# Altium schematic symbol library PC_SODIMM.SchLib: 1 symbol
Pins are listed as number, name and electrical type; pins without a type are passive.

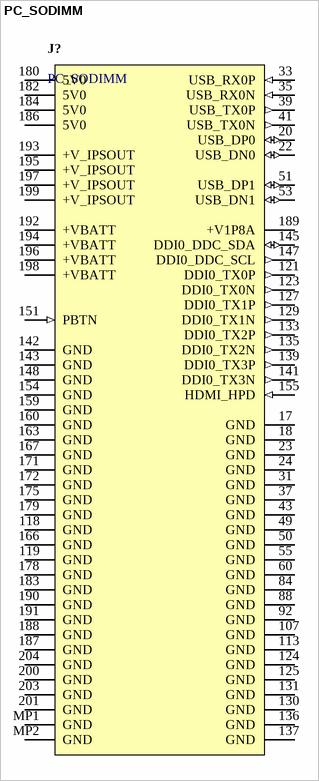
[diagram p0: symbol PC_SODIMM]

## PC_SODIMM
designator J?
pins: 17 GND (power), 18 GND (power), 20 USB_DP0 (io), 22 USB_DN0 (io), 23 GND (power), 24 GND (power), 31 GND (power), 33 USB_RX0P (in), 35 USB_RX0N (in), 37 GND (power), 39 USB_TX0P (out), 41 USB_TX0N (out), 43 GND (power), 49 GND (power), 50 GND (power), 51 USB_DP1 (io), 53 USB_DN1 (io), 55 GND (power), 60 GND (power), 84 GND (power), 88 GND (power), 92 GND (power), 107 GND (power), 113 GND (power), 118 GND (power), 119 GND (power), 121 DDI0_TX0P (out), 123 DDI0_TX0N (out), 124 GND (power), 125 GND (power), 127 DDI0_TX1P (out), 129 DDI0_TX1N (out), 130 GND (power), 131 GND (power), 133 DDI0_TX2P (out), 135 DDI0_TX2N (out), 136 GND (power), 137 GND (power), 139 DDI0_TX3P (out), 141 DDI0_TX3N (out), 142 GND (power), 143 GND (power), 145 DDI0_DDC_SDA (io), 147 DDI0_DDC_SCL (out), 148 GND (power), 151 PBTN (in), 154 GND (power), 155 HDMI_HPD (in), 159 GND (power), 160 GND (power), 163 GND (power), 166 GND (power), 167 GND (power), 171 GND (power), 172 GND (power), 175 GND (power), 178 GND (power), 179 GND (power), 180 5V0 (power), 182 5V0 (power), 183 GND (power), 184 5V0 (power), 186 5V0 (power), 187 GND (power), 188 GND (power), 189 +V1P8A (power), 190 GND (power), 191 GND (power), 192 +VBATT (power), 193 +V_IPSOUT (power), 194 +VBATT (power), 195 +V_IPSOUT (power), 196 +VBATT (power), 197 +V_IPSOUT (power), 198 +VBATT (power), 199 +V_IPSOUT (power), 200 GND (power), 201 GND (power), 203 GND (power), 204 GND (power), MP1 GND (power), MP2 GND (power)